# EAGLE library part LTC3402 (library Octanis1_EPS)
1 LTC3402 3402fb 2A, 3MHz Micropower Synchronous Boost Converter
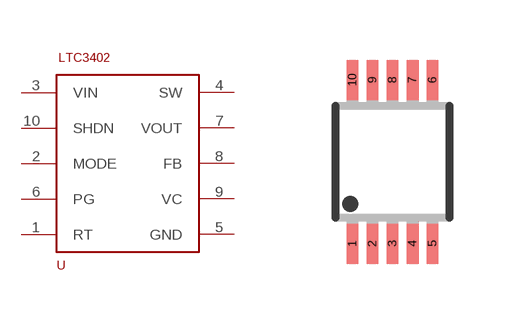
[diagram p8: symbol with the pads of MSOP10; footprint MSOP10]

Designator prefix -

## LTC3402  [MSOP10]
1  RT
2  MODE
3  VIN
4  SW
5  GND
6  PG
7  VOUT
8  FB
9  VC
10  SHDN

## Footprint MSOP10 (pad centres in mm)
10 Lead Platic MSOP Source: http://www.linear.com .. LT1996
smd 0.3 x 1: 1 -1,-2.05; 2 -0.5,-2.05; 3 0,-2.05; 4 0.5,-2.05; 5 1,-2.05; 6 1,2.05; 7 0.5,2.05; 8 0,2.05; 9 -0.5,2.05; 10 -1,2.05